# Altium schematic symbol library Crystals.SchLib: 1 symbol
Pins are listed as number, name and electrical type; pins without a type are passive.

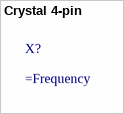
[diagram p0: symbol Crystal 4-pin]

## Crystal 4-pin
designator X?
Frequeny: Freq